# Altium schematic symbol library SRR1003-220M.SchLib: 1 symbol
Pins are listed as number, name and electrical type; pins without a type are passive.

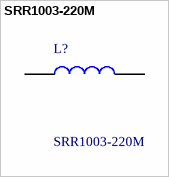
[diagram p0: symbol SRR1003-220M]

## SRR1003-220M
designator L?
22 H Shielded Drum Core, Wirewound Inductor 850 mA 300mOhm Max Nonstandard; Manufacturer_Name: Bourns; Geometry.Height: 3mm; Manufacturer_Part_Number: SRR1003-220M; Mouser Part Number: 652-SRR1003-220M; Mouser Price/Stock: https://www.mouser.com/Search/Refine.aspx?Keyword=652-SRR1003-220M; Arrow Part Number: SRR1003-220M; Arrow Price/Stock: https://www.arrow.com/en/products/srr1003-220m/bourns; Datasheet Link: https://www.bourns.com/pdfs/SRR1003.pdf
footprint SRR1003220M
pins: 1, 2